# EAGLE library part 15POL_ABGEWINKELT_M (library Honda2-0)
Honda Steckverbinder 15Pol abgewinkelt m FKP xML
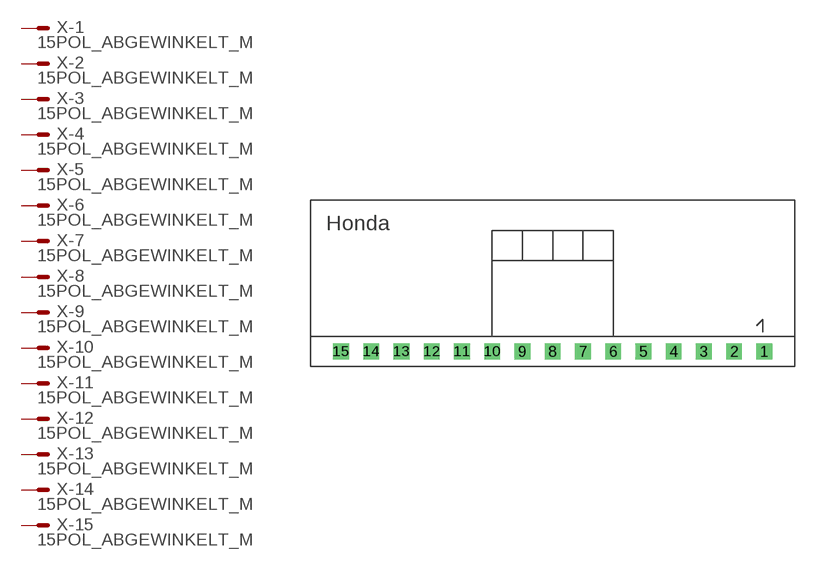
[diagram p0: symbol with the pads of 15POL_ABGEWINKELT; footprint 15POL_ABGEWINKELT]

Designator prefix X; gates -1=M -2=M -3=M -4=M -5=M -6=M -7=M -8=M -9=M -10=M -11=M -12=M -13=M -14=M -15=M

## 15POL_ABGEWINKELT_M'  [15POL_ABGEWINKELT]
1  -1:S  pas
2  -2:S  pas
3  -3:S  pas
4  -4:S  pas
5  -5:S  pas
6  -6:S  pas
7  -7:S  pas
8  -8:S  pas
9  -9:S  pas
10  -10:S  pas
11  -11:S  pas
12  -12:S  pas
13  -13:S  pas
14  -14:S  pas
15  -15:S  pas

## Footprint 15POL_ABGEWINKELT (pad centres in mm)
Honda Steckverbinder 15 Pol abgewinkelt m FKP xML
drill 0.813 square: 1 38.1,1.27; 2 35.56,1.27; 3 33.02,1.27; 4 30.48,1.27; 5 27.94,1.27; 6 25.4,1.27; 7 22.86,1.27; 8 20.32,1.27; 9 17.78,1.27; 10 15.24,1.27; 11 12.7,1.27; 12 10.16,1.27; 13 7.62,1.27; 14 5.08,1.27; 15 2.54,1.27